# EAGLE library part DS1302Z+ (library DS1302Z_)
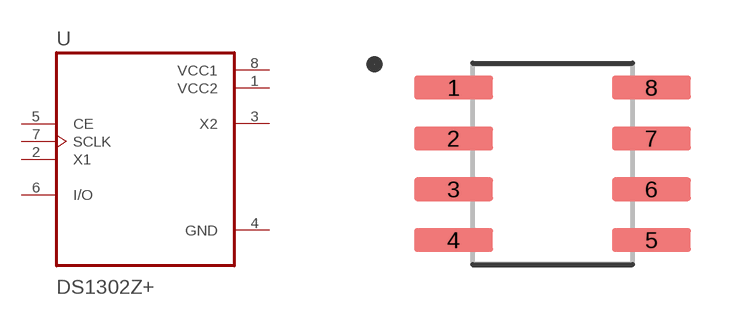
[diagram p0: symbol with the pads of SOIC127P600X175-8N; footprint SOIC127P600X175-8N]

Designator prefix U

## DS1302Z+ (Availability: Unavailable; Description: Real Time Clock (RTC) IC Clock/Calendar 31B 3-Wire Serial 8-SOIC (0.154, 3.90mm Width); MF: Maxim Integrated; MP: DS1302Z; Package: SOIC-8 Maxim Integrated; Price: None)  [SOIC127P600X175-8N]
1  VCC2  pwr
2  X1  in
3  X2  out
4  GND  pwr
5  CE  in
6  I/O
7  SCLK  in
8  VCC1  pwr

## Footprint SOIC127P600X175-8N (pad centres in mm)
smd 1.97 x 0.59: 1 -2.475,1.905; 2 -2.475,0.635; 3 -2.475,-0.635; 4 -2.475,-1.905; 5 2.475,-1.905; 6 2.475,-0.635; 7 2.475,0.635; 8 2.475,1.905